# EAGLE library part BGA725L6 (library Deegou_IC)
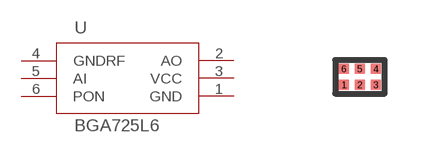
[diagram p122: symbol with the pads of BGA725L6; footprint BGA725L6]

Designator prefix U

## BGA725L6  [BGA725L6]
1  GND
2  AO
3  VCC
4  GNDRF
5  AI
6  PON

## Footprint BGA725L6 (pad centres in mm)
smd 0.25 x 0.25: 1 -0.4,-0.2; 2 0,-0.2; 3 0.4,-0.2; 4 0.4,0.2; 5 0,0.2; 6 -0.4,0.2